# Altium schematic symbol library PCB_Study.SchLib: 2 symbols
Pins are listed as number, name and electrical type; pins without a type are passive.

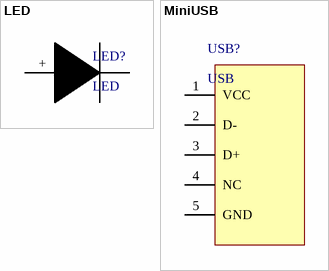
[diagram p0: symbols LED to MiniUSB]

## LED
designator LED?
pins: +, -

## MiniUSB
designator USB?, comment USB
pins: 1 VCC, 2 D-, 3 D+, 4 NC, 5 GND